# Altium schematic symbol library HierarchicalModeling.SCHLIB: 7 symbols
Pins are listed as number, name and electrical type; pins without a type are passive.

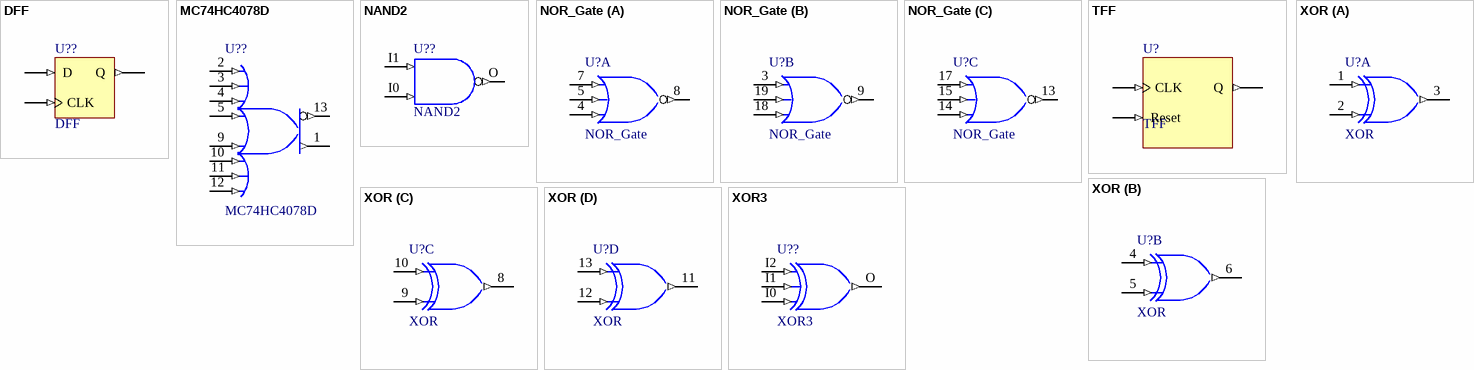
[diagram p0: symbols DFF to XOR3]

## DFF
designator U??
Positive Edge Triggered D-Type Flip-Flop; FPGAVendor: Actel; Published: 21-Jul-2004; Publisher: Altium Limited; HelpURL: http://www.actel.com/documents/PA_libguide.pdf
pins: CLK (in), D (in), Q (out)

## MC74HC4078D
designator U??
8-Input NOR/OR Gate; Note: Pins 6 & 8 are NC and not drawn.; Published: 17-Jul-2002; LatestRevisionDate: 13-Apr-2006; LatestRevisionNote: IPC-7351 Footprint Added.; DatasheetVersion: 1989; PackageVersion: 1991; PackageReference: 751A-02; Publisher: Altium Limited; PackageDescription: 14-Pin Small Outline Integrated Circuit 1.27 mm Pitch; Code_IPC: SOIC127P600-14; ComponentLink1Description: Manufacturer Link; ComponentLink1URL: http://www.onsemi.com/site/products/parametrics/0,4446,247,00.html; ComponentLink2Description: Ibis Model; ComponentLink2URL: http://www.onsemi.com/pub/Collateral/MC54HC4078J.IBS
footprint 751A-02_N (SOIC, 14-Leads, Body 8.7x3.9mm, Pitch 1.27mm, IPC Medium Density)
footprint 751A-02_L (SOIC, 14-Leads, Body 8.7x3.9mm, Pitch 1.27mm, IPC High Density)
footprint 751A-02_M (SOIC, 14-Leads, Body 8.7x3.9mm, Pitch 1.27mm, IPC Low Density)
3D model 751A-02 (14-Pin Small Outline Integrated Circuit 1.27 mm Pitch)
signal-integrity model MC74HC4078D
pins: 1 X (out), 2 A (in), 3 B (in), 4 C (in), 5 D (in), 7 GND (power) hidden to GND, 9 E (in), 10 F (in), 11 G (in), 12 H (in), 13 Y (out), 14 VDD (power) hidden to VDD

## NAND2
designator U??
2-Input NAND Gate; FPGAVendor: CUPL; Published: 17-Apr-2002; Publisher: Altium Limited
pins: I0 (in), I1 (in), O (out)

## NOR_Gate
designator U?
Triple 3-Input Positive-NOR Gate
pins on every part: 2 VCC (power) hidden to VCC, 10 GND (power) hidden to GND, 12 GND (power) hidden to GND, 20 VCC (power) hidden to VCC
part A pins: 4 C (in), 5 B (in), 7 A (in), 8 Y (out)
part B pins: 3 A (in), 9 Y (out), 18 C (in), 19 B (in)
part C pins: 13 Y (out), 14 C (in), 15 B (in), 17 A (in)

## TFF
designator U?
Positive Edge Triggered D-Type Flip-Flop
pins: CLK (in), Q (out), Reset (in)

## XOR
designator U?
Quad 2-Input XOR Gate, 14-Pin SOP, Commerical Grade; IC_Technology: AC; Published: 17-Jul-2002; LatestRevisionDate: 13-Apr-2006; LatestRevisionNote: IPC-7351 Footprint Added.; DatasheetVersion: Nov-1999; PackageVersion: 2000; PackageReference: M14D; Publisher: Altium Limited; PackageDescription: 14-Pin Small Outline Package 1.27 mm Pitch; ComponentLink1Description: Manufacturer Link; ComponentLink1URL: http://www.fairchildsemi.com/; ComponentLink2Description: Datasheet; ComponentLink2URL: http://www.fairchildsemi.com/ds/74%2F74AC86.pdf
footprint M14D_N (SOP, 14-Leads, Body 10.1x5.3mm, Pitch 1.27mm, IPC Medium Density)
footprint M14D_L (SOP, 14-Leads, Body 10.1x5.3mm, Pitch 1.27mm, IPC High Density)
footprint M14D_M (SOP, 14-Leads, Body 10.1x5.3mm, Pitch 1.27mm, IPC Low Density)
3D model M14D (14-Pin Small Outline Package 1.27 mm Pitch)
simulation model FSC_74LS86 (SIMCODE)
signal-integrity model 74AC86SJ
pins on every part: 7 GND (power) hidden to GND, 14 VCC (power) hidden to VCC
part A pins: 1 A (in), 2 B (in), 3 O (out)
part B pins: 4 A (in), 5 B (in), 6 O (out)
part C pins: 8 O (out), 9 B (in), 10 A (in)
part D pins: 11 O (out), 12 B (in), 13 A (in)

## XOR3
designator U??
3-Input XOR Gate; FPGAVendor: CUPL; Published: 17-Apr-2002; Publisher: Altium Limited
pins: I0 (in), I1 (in), I2 (in), O (out)